# Altium schematic symbol library diodes_other.SchLib: 18 symbols
Pins are listed as number, name and electrical type; pins without a type are passive.

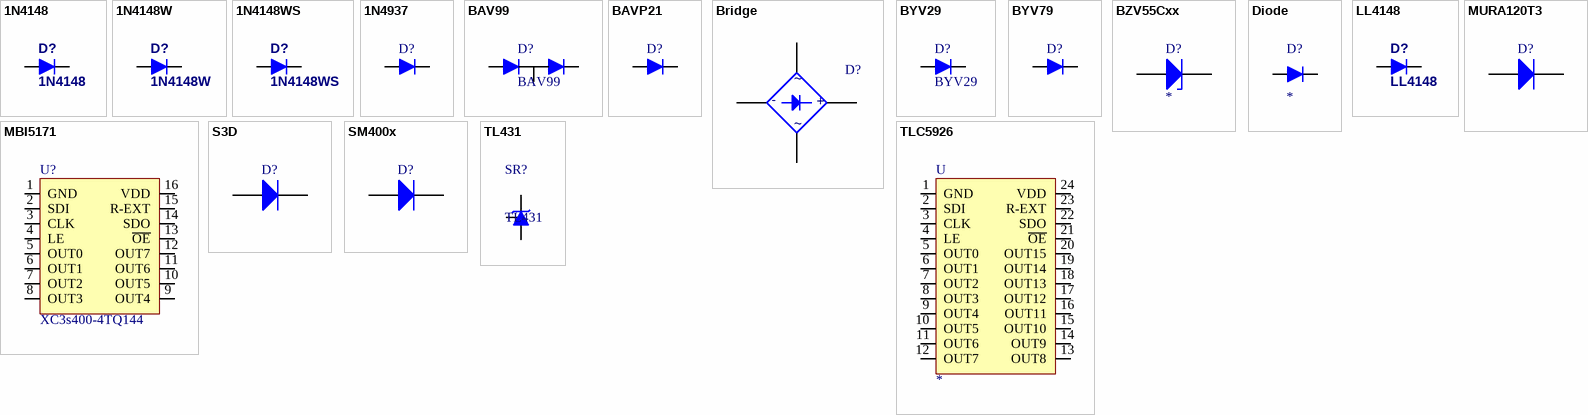
[diagram p0: symbols 1N4148 to TLC5926]

## 1N4148
designator D?
Fast rectifier diode: 75V 0,01A <4ns; Published: 26-Mar-2006
footprint DIO6.35-3.1x1.6 (Diode, Axial; Body 3 x 1.6 mm (LxDia. max), Lead Dia. 0.55 mm (max))
footprint DIO10.2-7x2.7 (Diode, Axial; Body 7 x 2.7 mm (LxDia. max), Lead Dia. 0.53 mm (max))
pins: 1 A, 2 K

## 1N4148W
designator D?
Fast rectifier diode: 75V 0,01A <4ns; Published: 26-Mar-2006; Supplier 1: Farnell; Supplier 2: Farnell; Supplier Part Number 1: 1621821; Supplier Part Number 2: 9556079
footprint SOD123
pins: 1 A, 2 K
2 alternate drawings of the same symbol

## 1N4148WS
designator D?
Fast rectifier diode: 75V 0,01A <4ns; Published: 26-Mar-2006; Supplier 1: Farnell; Supplier 2: Farnell; Supplier 3: Farnell; Supplier 4: TME; Supplier 5: TME; Supplier 6: Farnell; Supplier 7: Farnell; Supplier 8: Farnell; Supplier 9: Farnell; Supplier 10: Farnell; Supplier 11: Farnell; Supplier 12: Farnell; Supplier Part Number 1: 2368694; Supplier Part Number 2: 2306366; Supplier Part Number 3: 2453269RL; Supplier Part Number 4: 1N4148WS; Supplier Part Number 5: 1N4148WS-E3-08; Supplier Part Number 6: 1466524; Supplier Part Number 7: 8734399; Supplier Part Number 8: 1843678; Supplier Part Number 9: 2453269; Supplier Part Number 10: 2306365; Supplier Part Number 11: 2164233; Supplier Part Number 12: 2363443
footprint SOD323 (JAITA Marking: SC76 / SC-76)
pins: 1 A, 2 K
2 alternate drawings of the same symbol

## 1N4937
designator D?
Fast rectifier diode: 600V, 1A, 200ns; Published: 26-Mar-2006
footprint DO41
pins: 1 A, 2 K

## BAV99
designator D?
Switching diode: 75V 0,45A <4ns; Published: 26-Mar-2006
footprint SOT-23
pins: 1 A, 2 K, 3

## BAVP21
designator D?
Fast rectifier diode: 250V 0.25A, <50ns DO35; Published: 26-Mar-2006
footprint DO35
footprint DO35_LONG
pins: 1 A, 2 K

## Bridge
designator D?
Full Wave Diode Bridge; Published: 20-Feb-2006
footprint Mostek 6A
footprint Mostek 25A (KBK25J)
pins: 1 +, 2 AC, 3 AC, 4 -
1 alternate drawing of the same symbol
text: ~

## BYV29
designator D?
Rectifier diodes ultrafast; Published: 07-May-2007
footprint TO-220-2
footprint TO-220-2_RA
pins: 1 A, 2 K

## BYV79
designator D?
Rectifier diodes ultrafast; Published: 07-May-2007
footprint TO220/2; pin to pad 1>2 2>1
pins: 1 A, 2 K

## BZV55Cxx
designator D?
Small Signal Fast Switching Diode; Published: 20-Feb-2006; PackageReference: MiniMELF; Value: *
footprint MiniMELF
pins: 1 A, 2 K

## Diode
designator D?
Rectifier Diode
footprint MINIMELF
footprint DO35_LONG
footprint DO35
footprint DIO7.4-4x2 (Diode, Axial; Body 4 x 2 mm (LxDia. max), Lead Dia. 0.6 mm (max))
pins: 1 A, 2 K

## LL4148
designator D?
Fast rectifier diode: 75V 0,01A <4ns; Published: 26-Mar-2006
footprint MiniMELF
pins: 1 A, 2 K
2 alternate drawings of the same symbol

## MBI5171
designator U?, comment XC3s400-4TQ144
Logic Cell Array; Manufacturer: Xilinx; Revision 1: 29-Sep-2000: PCB footprint, 'F-QFP20x20-G144/N' replaced 'F-QFP20x20-G144/P.5N'.; Revision 2: 17-Jul-2002: Re-released for DXP Platform.; Class I: Field Programmable Gate Array; Class II: XC Series; Published: 8-Jun-2000; Datasheet: Xilinx Programmable Logic Data Book (1994); Package Reference: TQ144; Publisher: Altium Limited
footprint MSOP16 (Footprint not found)
pins: 1 GND, 2 SDI, 3 CLK, 4 LE, 5 OUT0, 6 OUT1, 7 OUT2, 8 OUT3, 9 OUT4, 10 OUT5, 11 OUT6, 12 OUT7, 13 ~{OE}, 14 SDO, 15 R-EXT, 16 VDD

## MURA120T3
designator D?
Ultrafast Rectifiers  1A, 200V; Published: 22-Jan-2007; PackageReference: SMB
footprint SMB
pins: 1 A, 2 K

## S3D
designator D?
Surface Mount Rectifier; Published: 14-Jul-2006; PackageReference: SMC
footprint SMC
pins: 1 A, 2 K

## SM400x
designator D?
1A Surface Mount Silicon Rectifier; Published: 14-Sep-2006; PackageReference: MELF
footprint MELF
pins: 1 A, 2 K

## TL431
designator SR?
Precission Programmable Reference
footprint SOT-23
pins: 1 K, 2 R, 3 A

## TLC5926
designator U
footprint MSOP24
pins: 1 GND, 2 SDI, 3 CLK, 4 LE, 5 OUT0, 6 OUT1, 7 OUT2, 8 OUT3, 9 OUT4, 10 OUT5, 11 OUT6, 12 OUT7, 13 OUT8, 14 OUT9, 15 OUT10, 16 OUT11, 17 OUT12, 18 OUT13, 19 OUT14, 20 OUT15, 21 ~{OE}, 22 SDO, 23 R-EXT, 24 VDD